# Altium footprint library LED_BAT_breakout.PcbLib: 2 footprints
Each footprint in its own frame and in the unit in brackets; x right, y up, seen from the top. Pads: shape width x height; smd on the part's side, far side on the other; paste and mask are expansions set on the pad; w line width, h text height; cw(c..) or ccw(c..) is an arc to the next point about the centre after c.
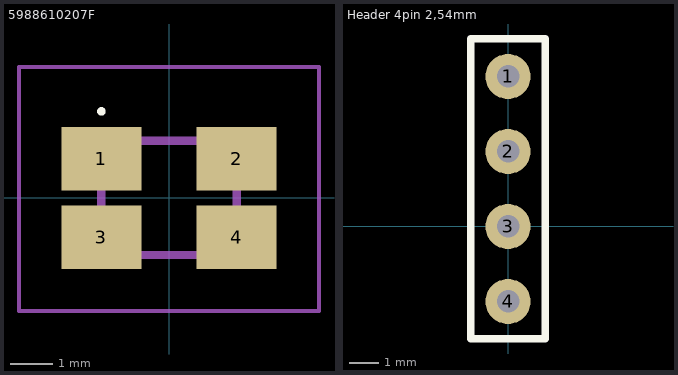
[diagram p0: the footprints below, top view; thin cyan lines are the x and y axes]

## 5988610207F [mm]
pads (4):
  rect 1.9x1.5 smd: 1(-1.6,0.925) 2(1.6,0.925) 3(-1.6,-0.925) 4(1.6,-0.925)
Top Overlay:
  lines w0.1: -1.6,2 cw(c-1.6,2.05) -1.6,2.1 cw(c-1.6,2.05) -1.6,2
Mechanical 13:
  lines w0.2: -1.6,-1.35 -1.6,1.35 1.6,1.35 1.6,-1.35 -1.6,-1.35
Mechanical 15:
  lines w0.1: -3.55,-2.675 -3.55,3.1 3.55,3.1 3.55,-2.675 -3.55,-2.675
3D body "598-8610-207F.stp": height 0.9, standoff 0, extent -1.6,-1.35 1.6,1.35

## Header 4pin 2,54mm [mil]
pads (4):
  round 60 hole 30: 1(0,200) 2(0,100) 3(0,0) 4(0,-100)
Top Overlay:
  lines w10: -50,-150 50,-150 50,250 -50,250 -50,-150
3D body: height 271.65, standoff -118.11, extent -10,-10 10,10
3D body: height 271.65, standoff -118.11, extent -10,90 10,110
3D body: height 271.65, standoff -118.11, extent -10,190 10,210
3D body: height 70.87, standoff 0, extent -50,-150 50,250
3D body: height 271.65, standoff -118.11, extent -10,-110 10,-90